# Altium integrated library TESTPOINT_RND_1.0mm.IntLib: 1 symbol
Pins are listed as number, name and electrical type; pins without a type are passive.

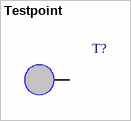
[diagram p0: symbol Testpoint]

## Testpoint
designator T?, comment TSTPNT  (value not drawn)
footprint PCBComponent_1
pins: 1